# Altium schematic symbol library Schlib1.SchLib: 1 symbol
Pins are listed as number, name and electrical type; pins without a type are passive.

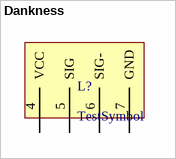
[diagram p0: symbol Dankness]

## Dankness
designator L?, comment TestSymbol
footprint PCBComponent_1
pins: 4 VCC, 5 SIG, 6 SIG-, 7 GND